# EAGLE library part SIA910EDJ (library Public)
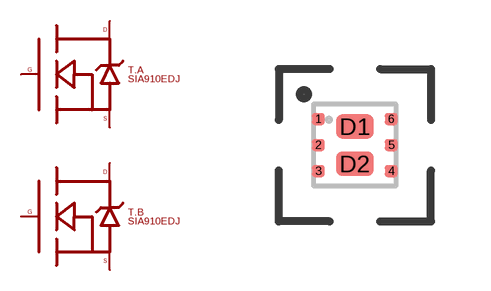
[diagram p82: symbol with the pads of SC70-6L_POWERPAK; footprint SC70-6L_POWERPAK]

Designator prefix T; gates .A=MOSFET_N_WITH_BODYDIODE .B=MOSFET_N_WITH_BODYDIODE

## SIA910EDJ  [SC70-6L_POWERPAK]
1  .A:S
2  .A:G
3  .B:D
4  .B:S
5  .B:G
6  .A:D
D1  .A:D
D2  .B:D

## Footprint SC70-6L_POWERPAK (pad centres in mm)
smd 0.325 x 0.3: 1 -0.912,0.65; 2 -0.912,0; 3 -0.912,-0.65; 4 0.912,-0.65; 5 0.912,0; 6 0.912,0.65
smd 0.95 x 0.613: D1 0,0.467; D2 0,-0.467